# Altium schematic symbol library transistor.SchLib: 4 symbols
Pins are listed as number, name and electrical type; pins without a type are passive.

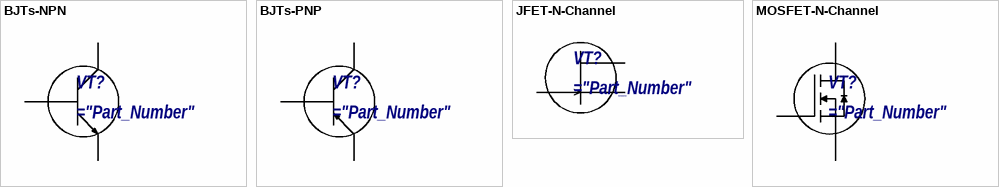
[diagram p0: symbols BJTs-NPN to MOSFET-N-Channel]

## BJTs-NPN
designator VT?
="Purchase"
pins: 1 B, 2 C, 3 E

## BJTs-PNP
designator VT?
="Purchase"
pins: 1 B, 2 C, 3 E

## JFET-N-Channel
designator VT?
="Purchase"
pins: 1 G, 2 D, 3 S

## MOSFET-N-Channel
designator VT?
="Purchase"
pins: 1 G, 2 D, 3 S